# EAGLE library part PRTR5V0U4D (library fmcVarious)
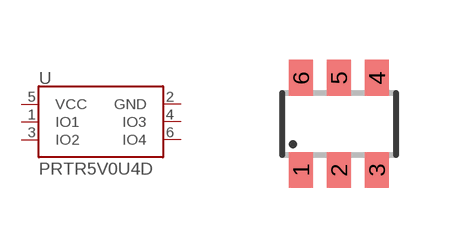
[diagram p8: symbol with the pads of SOT23-6; footprint SOT23-6]

Designator prefix U

## PRTR5V0U4D  [SOT23-6]
1  IO1
2  GND  pwr
3  IO2
4  IO3
5  VCC  pwr
6  IO4

## Footprint SOT23-6 (pad centres in mm)
Small Outline Transistor 6 lead
smd 0.6 x 0.9: 1 -0.95,-1.15; 2 0,-1.15; 3 0.95,-1.15; 4 0.95,1.15; 5 0,1.15; 6 -0.95,1.15